# Altium schematic symbol library XFL4020-102MEC.SchLib: 1 symbol
Pins are listed as number, name and electrical type; pins without a type are passive.

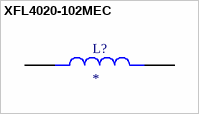
[diagram p0: symbol XFL4020-102MEC]

## XFL4020-102MEC
designator L?
Power inductor, shielded, 20% tol, SMT, RoHS, halogen free; MP: XFL4020-102MEC; Price: None; Value: *; Availability: Unavailable; Package: None
footprint IND_XFL4020-102MEC
pins: 1, 2